# Altium schematic symbol library S25FL128S.Schlib: 1 symbol
Pins are listed as number, name and electrical type; pins without a type are passive.

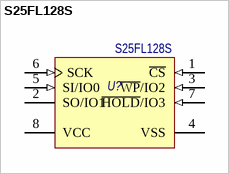
[diagram p0: symbol S25FL128S]

## S25FL128S
designator U?, comment Наименование: S25FL128S  (hidden comment: S25FL128SAGNFM00)
128 Mb (16 MB) 3.0V SPI Flash Memory; Потребление, Вт: 0,3; Назначение: 128 Mb (16 MB) 3.0V SPI Flash Memory
footprint WSON-8 (WSON, 8-Leads, Body 6,00x8,00mm, Pitch 1,27mm, Thermal Pad 4,80x4,65mm)
pins: 1 ~{CS} (in) "Chip Select. This active LOW input activates the device. When HIGH, the device enters low-power standby mode, ignores other inputs, and the output is tristated. When LOW, the device internally activates the SCK signal. A (See Datasheet)", 2 SO/IO1 (hiz) "Serial Output.This is the data output pin. It is driven during a read and remains tristated at all other times including when H\O\L\D\ is LOW. Data transitions are driven on the falling edge of the serial clock.", 3 ~{WP}/IO2 (in) "Write Protect.This Active LOW pin prevents write operation to the Status Register when WPEN is set to ‘1’. This is critical because other write protection features are controlled through the Status Register.", 4 VSS (power) "Ground for the device. Must be connected to the ground of the system.", 5 SI/IO0 (in) "Serial Input. All data is input to the device on this pin. The pin is sampled on the rising edge of SCK and is ignored at other times. It should always be driven to a valid logic level to meet IDD specifications", 6 SCK (in) "Serial Clock. All I/O activity is synchronized to the serial clock. Inputs are latched on the rising edge and outputs occur on the falling edge. Because the device is synchronous, the clock frequency may be any value between (See Datasheet)", 7 ~{HOLD}/IO3 (in) "H\O\L\D\ Pin.The H\O\L\D\ pin is used when the host CPU must interrupt a memory operation for another task. When H\O\L\D\ is LOW, the current operation is suspended. The device ignores any transition on SCK or CS. All (See Datasheet)", 8 VCC (power) "Power supply input to the device."